# Altium schematic symbol library EL-sense_Transformer.SchLib: 3 symbols
Pins are listed as number, name and electrical type; pins without a type are passive.

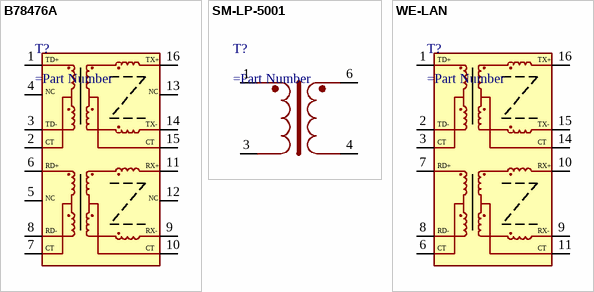
[diagram p0: symbols B78476A to WE-LAN]

## B78476A
designator T?
pins: 1 TD+, 2 CT, 3 TD-, 4 NC, 5 NC, 6 RD+, 7 CT, 8 RD-, 9 RX-, 10 CT, 11 RX+, 12 NC, 13 NC, 14 TX-, 15 CT, 16 TX+

## SM-LP-5001
designator T?
pins: 1, 3, 4, 6

## WE-LAN
designator T?
pins: 1 TD+, 2 TD-, 3 CT, 6 CT, 7 RD+, 8 RD-, 9 RX-, 10 RX+, 11 CT, 14 CT, 15 TX-, 16 TX+